# EAGLE library part JTAG (library icnh3)
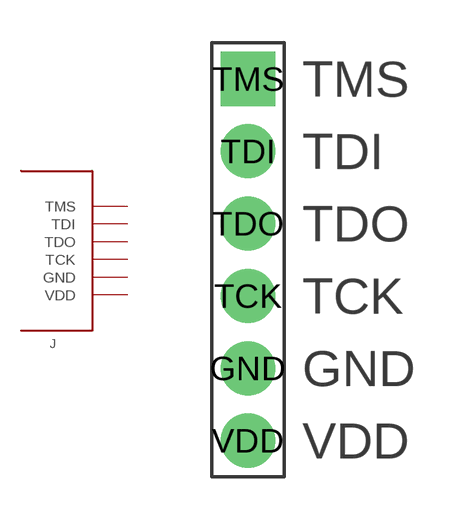
[diagram p14: symbol with the pads of JTAG; footprint JTAG]

Designator prefix J

## JTAG  [JTAG]
GND  GND
TCK  TCK
TDI  TDI
TDO  TDO
TMS  TMS
VDD  VDD

## Footprint JTAG (pad centres in mm)
drill 1.1 pad 1.9: GND 0,-10.16; TCK 0,-7.62; TDI 0,-2.54; TDO 0,-5.08; VDD 0,-12.7
drill 1.1 pad 1.9 square: TMS 0,0